# Altium schematic symbol library RNCS1206BKE100R.SchLib: 1 symbol
Pins are listed as number, name and electrical type; pins without a type are passive.

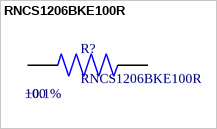
[diagram p0: symbol RNCS1206BKE100R]

## RNCS1206BKE100R
designator R?  value 100  Tolerance: ±0.1%
Res Thin Film 1206 100 Ohm 0.1% 0.125W(1/8W); Supplier 1: Digi-Key; Supplier Part Number 1: RNCS1206BKE100RCT-ND
footprint RNCS1206BKE100R
pins: 1, 1, 2, 2